# Altium schematic symbol library Eval.Boards.SchLib: 3 symbols
Pins are listed as number, name and electrical type; pins without a type are passive.

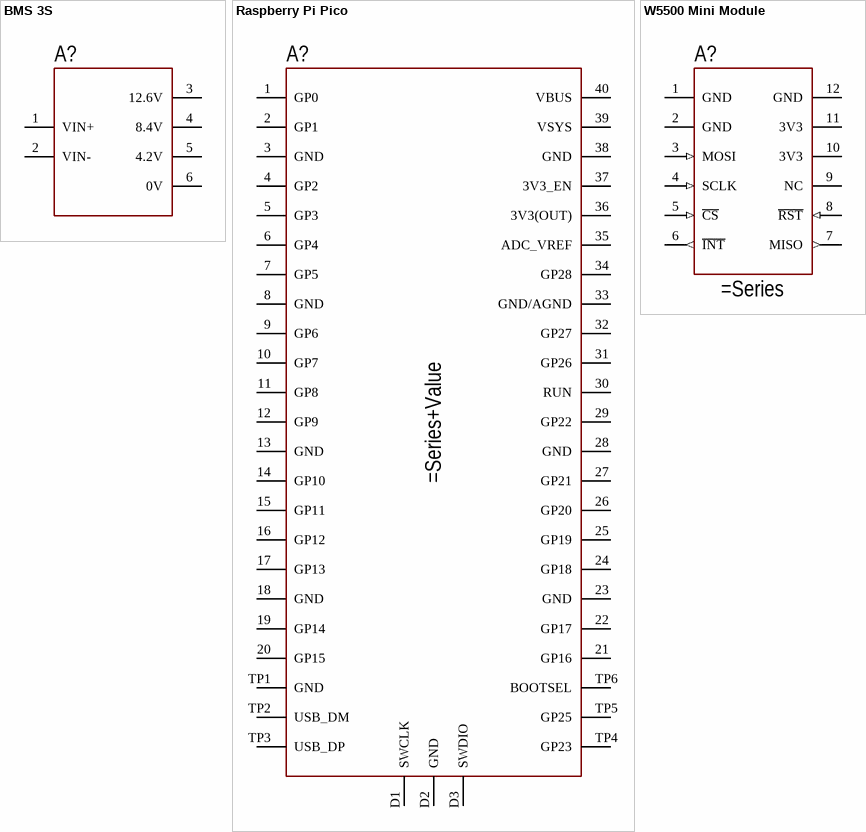
[diagram p0: symbols BMS 3S to W5500 Mini Module]

## BMS 3S
designator A?
Lithium Battery Charger Protection Module Schematic Symbol
pins: 1 VIN+, 2 VIN-, 3 12.6V, 4 8.4V, 5 4.2V, 6 0V

## Raspberry Pi Pico
designator A?
Raspberry Pi Pico Shcematic Symbol
pins: 1 GP0, 2 GP1, 3 GND, 4 GP2, 5 GP3, 6 GP4, 7 GP5, 8 GND, 9 GP6, 10 GP7, 11 GP8, 12 GP9, 13 GND, 14 GP10, 15 GP11, 16 GP12, 17 GP13, 18 GND, 19 GP14, 20 GP15, 21 GP16, 22 GP17, 23 GND, 24 GP18, 25 GP19, 26 GP20, 27 GP21, 28 GND, 29 GP22, 30 RUN, 31 GP26, 32 GP27, 33 GND/AGND, 34 GP28, 35 ADC_VREF, 36 3V3(OUT), 37 3V3_EN, 38 GND, 39 VSYS, 40 VBUS, A GND hidden to GND, B GND hidden to GND, C GND hidden to GND, D GND hidden to GND, D1 SWCLK, D2 GND, D3 SWDIO, TP1 GND, TP2 USB_DM, TP3 USB_DP, TP4 GP23, TP5 GP25, TP6 BOOTSEL

## W5500 Mini Module
designator A?
W5500 Mini Module Schematic Symbol
pins: 1 GND, 2 GND, 3 MOSI (in), 4 SCLK (in), 5 ~{CS} (in), 6 ~{INT} (out), 7 MISO (out), 8 ~{RST} (in), 9 NC, 10 3V3, 11 3V3, 12 GND